# EAGLE library part POT-STEREO (library r)
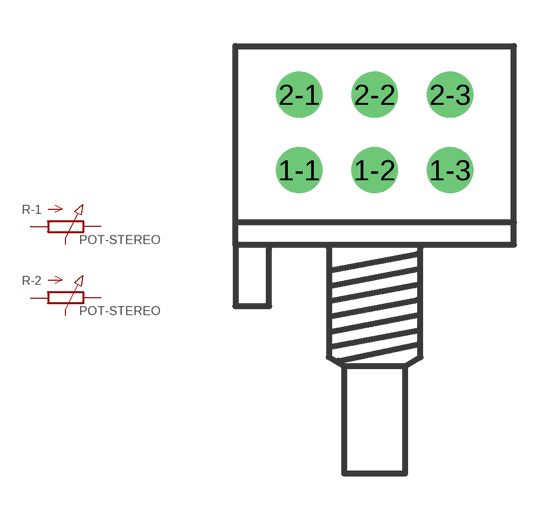
[diagram p1: symbol with the pads of POT-STEREO; footprint POT-STEREO]

Designator prefix R; gates -1=POT -2=POT

## POT-STEREO  [POT-STEREO]
1-1  -1:A  pas
1-2  -1:S  pas
1-3  -1:E  pas
2-1  -2:A  pas
2-2  -2:S  pas
2-3  -2:E  pas

## Footprint POT-STEREO (pad centres in mm)
drill 1: 1-1 -2.46,-2.54; 1-2 0,-2.54; 1-3 2.46,-2.54; 2-1 -2.46,-0.08; 2-2 0,-0.08; 2-3 2.46,-0.08